# EAGLE library part P89LPC922FDH,512 (library IC_for_Selfbus-Projects)
8-bit microcontrollers with two-clock 80C51 core 2 kB/4 kB/8 kB 3 V low-power Flash with 256-byte data RAM
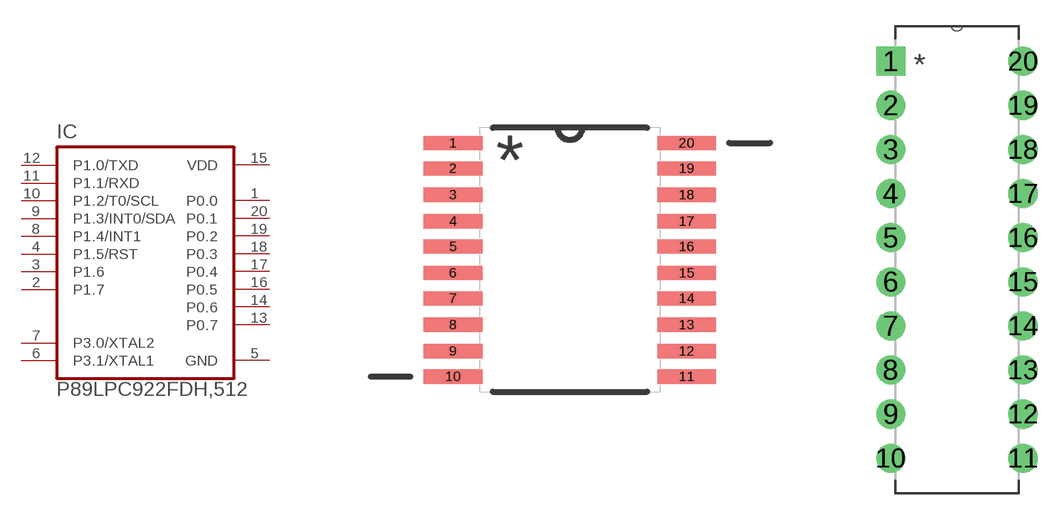
[diagram p1: symbol with the pads of SOP65P640X110-20N; footprints SOP65P640X110-20N, DIP254P762X533-20P]

Designator prefix IC

## P89LPC922FDH,512FDH (MPN: P89LPC922FDH,512; OC_FARNELL: 1895067; OC_NEWARK: 70R8570; PACKAGE: TSSOP-20; SUPPLIER: NXP)  [SOP65P640X110-20N]
1  P0.0
2  P1.7
3  P1.6
4  P1.5/RST  in
5  GND  pas
6  P3.1/XTAL1
7  P3.0/XTAL2
8  P1.4/INT1
9  P1.3/INT0/SDA
10  P1.2/T0/SCL
11  P1.1/RXD
12  P1.0/TXD
13  P0.7  pas
14  P0.6
15  VDD  pwr
16  P0.5
17  P0.4
18  P0.3
19  P0.2
20  P0.1

## P89LPC922FDH,512FN  [DIP254P762X533-20P]
Pads as for SOP65P640X110-20N

## Footprint SOP65P640X110-20N (pad centres in mm)
Small Outline Package
smd 1.473 x 0.356: 1 -2.286,2.54; 2 -2.286,1.905; 3 -2.286,1.245; 4 -2.286,0.584; 5 -2.286,-0.051; 6 -2.286,-0.711; 7 -2.286,-1.346; 8 -2.286,-2.007; 9 -2.286,-2.667; 10 -2.286,-3.302; 11 3.556,-3.302; 12 3.556,-2.667; 13 3.556,-2.007; 14 3.556,-1.346; 15 3.556,-0.711; 16 3.556,-0.051; 17 3.556,0.584; 18 3.556,1.245; 19 3.556,1.905; 20 3.556,2.54

## Footprint DIP254P762X533-20P (pad centres in mm)
Dual In Line Package
drill 1.118 square: 1 -7.62,22.86
drill 1.118: 2 -7.62,20.32; 3 -7.62,17.78; 4 -7.62,15.24; 5 -7.62,12.7; 6 -7.62,10.16; 7 -7.62,7.62; 8 -7.62,5.08; 9 -7.62,2.54; 10 -7.62,0; 11 0,0; 12 0,2.54; 13 0,5.08; 14 0,7.62; 15 0,10.16; 16 0,12.7; 17 0,15.24; 18 0,17.78; 19 0,20.32; 20 0,22.86